# Altium schematic symbol library Schlib1.SchLib: 1 symbol
Pins are listed as number, name and electrical type; pins without a type are passive.

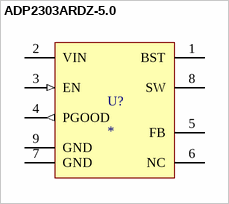
[diagram p0: symbol ADP2303ARDZ-5.0]

## ADP2303ARDZ-5.0
designator U?
Conv DC-DC 3V to 20V Step Down Single-Out 5V 3A 8-Pin SOIC N EP T/R; Manufacturer: Analog Devices; Manufacturer Part Number: ADP2303ARDZ; Description: Conv DC-DC 3V to 20V Step Down Single-Out 0.8V 3A 8-Pin SOIC N EP Tube; Output Voltage: 800mV; Switching Frequency: 700kHz; Number of Outputs: 1; Operating Supply Current: 950uA; Max Output Voltage: 16V; Output Type: Adjustable; Synchronous Rectifier: No; Rise Time: 170ns; Fall Time: 280ns; Max Duty Cycle: 50%; Output Configuration: Positive; Supplier 1: Digi-Key; RoHS: Yes; Category: Voltage Regulators - Switching; Stock 1: 392; Pricing 1: 1=3.82000, 10=3.43100, 25=3.24360, 100=2.81110, 250=2.66696, 500=2.39306, 1000=2.24400 (USD); Mount: Surface Mount; Case/Package: SOIC; Number of Pins: 8; Contact Plating: Tin,Matte; Weight: 0.019048oz; Min Operating Temperature: -40°C; Max Operating Temperature: 125°C; Output Current: 3A; Packaging: Rail/Tube; Max Input Voltage: 20V; Min Input Voltage: 3V; Max Output Current: 3A; Min Output Voltage: 800mV; Frequency: 700kHz; Package Quantity: 98; Length: 4.9mm; Width: 4mm; Height: 1.65mm; Radiation Hardening: No; Lead Free: Contains Lead; REACH SVHC: No SVHC; ComponentLink1URL: https://datasheet.ciiva.com/25626/0900766b810b59f9-25626473.pdf?src-supplier=RSComponents; ComponentLink1Description: https://datasheet.ciiva.com/25626/0900766b810b59f9-25626473.pdf?src-supplier=RSComponents; ComponentLink2URL: https://datasheet.ciiva.com/1161/1624274-1161217.pdf?src-supplier=Element14; ComponentLink2Description: https://datasheet.ciiva.com/1161/1624274-1161217.pdf?src-supplier=Element14; ComponentLink3URL: https://datasheet.ciiva.com/2031/adp2302-2303-2031522.pdf?src-supplier=Digi-Key; ComponentLink3Description: https://datasheet.ciiva.com/2031/adp2302-2303-2031522.pdf?src-supplier=Digi-Key; ComponentLink4URL: https://datasheet.ciiva.com/26909/getdatasheetpartid-553031-26909018.pdf?src-supplier=Verical; ComponentLink4Description: https://datasheet.ciiva.com/26909/getdatasheetpartid-553031-26909018.pdf?src-supplier=Verical; ComponentLink5URL: https://datasheet.ciiva.com/1165/adp2302-2303-1165371.pdf?src-supplier=Farnell; ComponentLink5Description: https://datasheet.ciiva.com/1165/adp2302-2303-1165371.pdf?src-supplier=Farnell; ComponentLink6URL: https://datasheet.ciiva.com/16621/adp2302-2303-16621054.pdf?src-supplier=Avnet+Europe; ComponentLink6Description: https://datasheet.ciiva.com/16621/adp2302-2303-16621054.pdf?src-supplier=Avnet+Europe; ComponentLink7URL: https://datasheet.ciiva.com/3244/adp2302-2303-3244751.pdf?src-supplier=Avnet; ComponentLink7Description: https://datasheet.ciiva.com/3244/adp2302-2303-3244751.pdf?src-supplier=Avnet; ComponentLink8URL: https://datasheet.ciiva.com/48696/001251162-da-01-en-ic-reg-buck-adj-3-adp2303ardz-soic-8-adi-48696837.pdf?src-supplier=Conrad; ComponentLink8Description: https://datasheet.ciiva.com/48696/001251162-da-01-en-ic-reg-buck-adj-3-adp2303ardz-soic-8-adi-48696837.pdf?src-supplier=Conrad; Supplier 2: Digi-Key; Stock 2: 585; Pricing 2: 1=3.82000, 10=3.43100, 25=3.24360, 100=2.81110, 250=2.66696, 500=2.39306 (USD); Operating Supply Voltage: 20V; Series: -; Nominal Output Voltage: 5V; RoHS Compliant: Yes; ComponentLink9URL: https://datasheet.ciiva.com/25626/0900766b810b59f9-25626508.pdf?src-supplier=RSComponents; ComponentLink9Description: https://datasheet.ciiva.com/25626/0900766b810b59f9-25626508.pdf?src-supplier=RSComponents; ComponentLink10URL: https://datasheet.ciiva.com/2024/adp2302-2303-2024384.pdf?src-supplier=Digi-Key; ComponentLink10Description: https://datasheet.ciiva.com/2024/adp2302-2303-2024384.pdf?src-supplier=Digi-Key; ComponentLink11URL: https://datasheet.ciiva.com/2024/adp2302-2303-2024383.pdf?src-supplier=Digi-Key; ComponentLink11Description: https://datasheet.ciiva.com/2024/adp2302-2303-2024383.pdf?src-supplier=Digi-Key; ComponentLink12URL: https://datasheet.ciiva.com/28436/1624274-28436554.pdf?src-supplier=Element14; ComponentLink12Description: https://datasheet.ciiva.com/28436/1624274-28436554.pdf?src-supplier=Element14; ComponentLink13URL: https://datasheet.ciiva.com/2024/adp2302-2303-2024382.pdf?src-supplier=Digi-Key; ComponentLink13Description: https://datasheet.ciiva.com/2024/adp2302-2303-2024382.pdf?src-supplier=Digi-Key; ComponentLink14URL: https://datasheet.ciiva.com/7994/1624274-7994911.pdf?src-supplier=Element14; ComponentLink14Description: https://datasheet.ciiva.com/7994/1624274-7994911.pdf?src-supplier=Element14; ComponentLink15URL: https://datasheet.ciiva.com/48696/001251161-da-01-en-ic-reg-buc-adp2303ardz-5-0-r7-soic-8-adi-48696838.pdf?src-supplier=Conrad; ComponentLink15Description: https://datasheet.ciiva.com/48696/001251161-da-01-en-ic-reg-buc-adp2303ardz-5-0-r7-soic-8-adi-48696838.pdf?src-supplier=Conrad; Supplier Part Number 2: 505-ADP2303ARDZ-5.0-R7CT-ND
footprint SOIC127P610X167-9N-R245X335 (SOIC, 1.27mm pitch; 8 pin, 3.89mm W X 4.90mm L X 1.67mm H body (w/thermal tab 2.45mm X 3.35mm), IPC Medium Density)
pins: 1 BST (power), 2 VIN (power), 3 EN (in), 4 PGOOD (out), 5 FB (power), 6 NC, 7 GND (power), 8 SW (power), 9 GND (power)